# Altium footprint library Small Outline (~1.27mm Pitch) - 6to20 Leads.PcbLib: 81 footprints (part 2 of 6)
Each footprint in its own frame and in the unit in brackets; x right, y up, seen from the top. Pads: shape width x height; smd on the part's side, far side on the other; paste and mask are expansions set on the pad; w line width, h text height; cw(c..) or ccw(c..) is an arc to the next point about the centre after c.
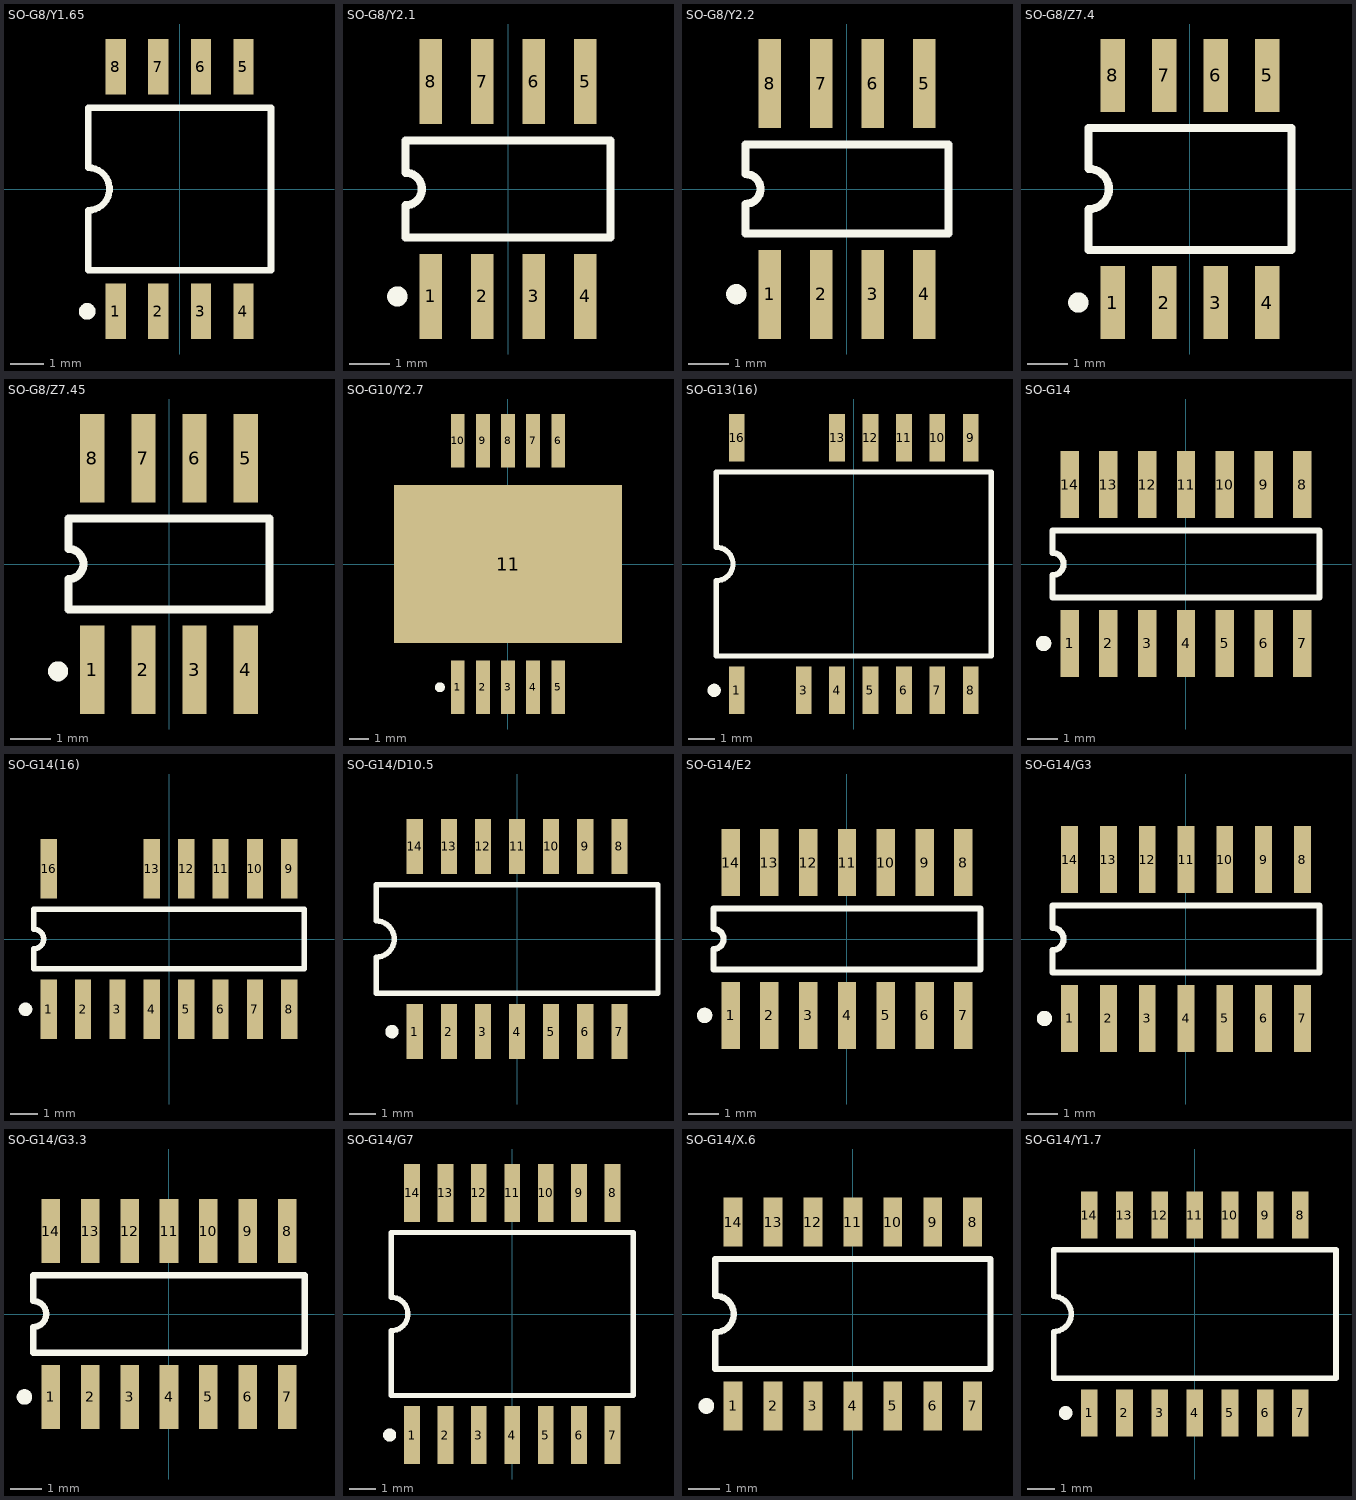
[diagram p1: the footprints below, top view; thin cyan lines are the x and y axes]

## SO-G8/Y1.65 [mm] "Small Outline; 8 Leads; Body Width 5.3 mm; Pitch 1.27 mm"
height 2.13
pads (8):
  rect 0.6x1.65 smd: 1(-1.905,-3.65) 2(-0.635,-3.65) 3(0.635,-3.65) 4(1.905,-3.65) 5(1.905,3.65) 6(0.635,3.65) 7(-0.635,3.65) 8(-1.905,3.65)
Top Overlay:
  circle w0.25: c-2.755,-3.65 r0.125
  lines w0.2: -2.725,-2.425 -2.725,-0.635 ccw(c-2.725,0) -2.725,0.635 -2.725,2.425 2.725,2.425 2.725,-2.425 -2.725,-2.425

## SO-G8/Y2.1 [mm] "Small Outline; 8 Leads; Body Width 3.9 mm; Pitch 1.27 mm"
height 1.75
pads (8):
  rect 0.55x2.1 smd: 1(-1.905,-2.65) 2(-0.635,-2.65) 3(0.635,-2.65) 4(1.905,-2.65) 5(1.905,2.65) 6(0.635,2.65) 7(-0.635,2.65) 8(-1.905,2.65)
Top Overlay:
  circle w0.25: c-2.73,-2.65 r0.125
  lines w0.2: -2.525,-1.2 -2.525,-0.4 ccw(c-2.525,0) -2.525,0.4 -2.525,1.2 2.525,1.2 2.525,-1.2 -2.525,-1.2

## SO-G8/Y2.2 [mm] "Small Outline, Plastic; 8 Leads; Body Width 3.9 mm"
height 1.75
pads (8):
  rect 0.55x2.2 smd: 1(-1.905,-2.6) 2(-0.635,-2.6) 3(0.635,-2.6) 4(1.905,-2.6) 5(1.905,2.6) 6(0.635,2.6) 7(-0.635,2.6) 8(-1.905,2.6)
Top Overlay:
  circle w0.25: c-2.73,-2.595 r0.125
  lines w0.2: -2.5,-1.1 2.5,-1.1 2.5,1.1 -2.5,1.1 -2.5,0.367 cw(c-2.5,0) -2.5,-0.367 -2.5,-1.1

## SO-G8/Z7.4 [mm] "Small Outline; 8 Leads; Body Width 3.9 mm; Pitch 1.27 mm"
height 1.55
pads (8):
  rect 0.6x1.8 smd: 1(-1.905,-2.8) 2(-0.635,-2.8) 3(0.635,-2.8) 4(1.905,-2.8) 5(1.905,2.8) 6(0.635,2.8) 7(-0.635,2.8) 8(-1.905,2.8)
Top Overlay:
  circle w0.25: c-2.755,-2.8 r0.125
  lines w0.2: -2.5,-1.5 2.5,-1.5 2.5,1.5 -2.5,1.5 -2.5,0.5 cw(c-2.5,0) -2.5,-0.5 -2.5,-1.5

## SO-G8/Z7.45 [mm] "Small Outline; 8 Leads; Body Width 3.9 mm; Pitch 1.27 mm"
height 1.75
pads (8):
  rect 0.6x2.2 smd: 1(-1.905,-2.625) 2(-0.635,-2.625) 3(0.635,-2.625) 4(1.905,-2.625) 5(1.905,2.625) 6(0.635,2.625) 7(-0.635,2.625) 8(-1.905,2.625)
Top Overlay:
  circle w0.25: c-2.755,-2.665 r0.125
  lines w0.2: -2.5,-1.125 2.5,-1.125 2.5,1.125 -2.5,1.125 -2.5,0.375 cw(c-2.5,0) -2.5,-0.375 -2.5,-1.125

## SO-G10/Y2.7 [mm] "Small Outline; 10 Leads; Body Width 9.4 mm; Pitch 1.27 mm"
height 3.71
pads (11):
  rect 0.7x2.7 smd: 1(-2.54,-6.225) 2(-1.27,-6.225) 3(0,-6.225) 4(1.27,-6.225) 5(2.54,-6.225) 6(2.54,6.225) 7(1.27,6.225) 8(0,6.225) 9(-1.27,6.225) 10(-2.54,6.225)
  rect 11.5x8 smd: 11(0,0)
Top Overlay:
  circle w0.25: c-3.44,-6.225 r0.125

## SO-G13(16) [mm] "Small Outline; 13 Leads; Body Width 7.5 mm; Pitch 1.27 mm"
height 2.65
pads (13):
  rect 0.6x1.8 smd: 1(-4.445,-4.8) 3(-1.905,-4.8) 4(-0.635,-4.8) 5(0.635,-4.8) 6(1.905,-4.8) 7(3.175,-4.8) 8(4.445,-4.8) 9(4.445,4.8) 10(3.175,4.8) 11(1.905,4.8) 12(0.635,4.8) 13(-0.635,4.8) 16(-4.445,4.8)
Top Overlay:
  circle w0.25: c-5.305,-4.8 r0.125
  lines w0.2: -5.225,-3.5 5.225,-3.5 5.225,3.5 -5.225,3.5 -5.225,0.635 cw(c-5.225,0) -5.225,-0.635 -5.225,-3.5

## SO-G14 [mm] "Small Outline; 14 Leads; Body Width 3.9 mm; Pitch 1.27 mm"
height 1.75
pads (14):
  rect 0.6x2.2 smd: 1(-3.81,-2.6) 2(-2.54,-2.6) 3(-1.27,-2.6) 4(0,-2.6) 5(1.27,-2.6) 6(2.54,-2.6) 7(3.81,-2.6) 8(3.81,2.6) 9(2.54,2.6) 10(1.27,2.6) 11(0,2.6) 12(-1.27,2.6) 13(-2.54,2.6) 14(-3.81,2.6)
Top Overlay:
  circle w0.25: c-4.66,-2.6 r0.125
  lines w0.2: -4.375,-1.1 -4.375,-0.367 ccw(c-4.375,0) -4.375,0.367 -4.375,1.1 4.375,1.1 4.375,-1.1 -4.375,-1.1

## SO-G14(16) [mm] "Small Outline; 14 Leads; Body Width 3.9 mm; Pitch 1.27 mm"
height 1.75
pads (14):
  rect 0.6x2.2 smd: 1(-4.445,-2.6) 2(-3.175,-2.6) 3(-1.905,-2.6) 4(-0.635,-2.6) 5(0.635,-2.6) 6(1.905,-2.6) 7(3.175,-2.6) 8(4.445,-2.6) 9(4.445,2.6) 10(3.175,2.6) 11(1.905,2.6) 12(0.635,2.6) 13(-0.635,2.6) 16(-4.445,2.6)
Top Overlay:
  circle w0.25: c-5.305,-2.6 r0.125
  lines w0.2: -5,-1.1 5,-1.1 5,1.1 -5,1.1 -5,0.367 cw(c-5,0) -5,-0.367 -5,-1.1

## SO-G14/D10.5 [mm] "Small Outline; 14 Leads; Body Width 5.3 mm; Pitch 1.27 mm"
height 2
pads (14):
  rect 0.6x2.05 smd: 1(-3.81,-3.45) 2(-2.54,-3.45) 3(-1.27,-3.45) 4(0,-3.45) 5(1.27,-3.45) 6(2.54,-3.45) 7(3.81,-3.45) 8(3.81,3.45) 9(2.54,3.45) 10(1.27,3.45) 11(0,3.45) 12(-1.27,3.45) 13(-2.54,3.45) 14(-3.81,3.45)
Top Overlay:
  circle w0.25: c-4.66,-3.45 r0.125
  lines w0.2: -5.25,-2.025 5.25,-2.025 5.25,2.025 -5.25,2.025 -5.25,0.675 cw(c-5.25,0) -5.25,-0.675 -5.25,-2.025

## SO-G14/E2 [mm] "Small Outline; 14 Leads; Body Width 3.9 mm; Pitch 1.27 mm"
height 1.75
pads (14):
  rect 0.6x2.2 smd: 1(-3.81,-2.5) 2(-2.54,-2.5) 3(-1.27,-2.5) 4(0,-2.5) 5(1.27,-2.5) 6(2.54,-2.5) 7(3.81,-2.5) 8(3.81,2.5) 9(2.54,2.5) 10(1.27,2.5) 11(0,2.5) 12(-1.27,2.5) 13(-2.54,2.5) 14(-3.81,2.5)
Top Overlay:
  circle w0.25: c-4.66,-2.5 r0.125
  lines w0.2: -4.375,-1 -4.375,-0.333 ccw(c-4.375,0) -4.375,0.333 -4.375,1 4.375,1 4.375,-1 -4.375,-1

## SO-G14/G3 [mm] "Small Outline; 14 Leads; Body Width 3.9 mm; Pitch 1.27 mm"
height 1.75
pads (14):
  rect 0.55x2.2 smd: 1(-3.81,-2.6) 2(-2.54,-2.6) 3(-1.27,-2.6) 4(0,-2.6) 5(1.27,-2.6) 6(2.54,-2.6) 7(3.81,-2.6) 8(3.81,2.6) 9(2.54,2.6) 10(1.27,2.6) 11(0,2.6) 12(-1.27,2.6) 13(-2.54,2.6) 14(-3.81,2.6)
Top Overlay:
  circle w0.25: c-4.635,-2.6 r0.125
  lines w0.2: -4.375,-1.1 -4.375,-0.367 ccw(c-4.375,0) -4.375,0.367 -4.375,1.1 4.375,1.1 4.375,-1.1 -4.375,-1.1

## SO-G14/G3.3 [mm] "Small Outline; 14 Leads; Body Width 3.9 mm; Pitch 1.27 mm"
height 1.75
pads (14):
  rect 0.6x2.05 smd: 1(-3.81,-2.675) 2(-2.54,-2.675) 3(-1.27,-2.675) 4(0,-2.675) 5(1.27,-2.675) 6(2.54,-2.675) 7(3.81,-2.675) 8(3.81,2.675) 9(2.54,2.675) 10(1.27,2.675) 11(0,2.675) 12(-1.27,2.675) 13(-2.54,2.675) 14(-3.81,2.675)
Top Overlay:
  circle w0.25: c-4.66,-2.675 r0.125
  lines w0.2: -4.375,-1.25 4.375,-1.25 4.375,1.25 -4.375,1.25 -4.375,0.417 cw(c-4.375,0) -4.375,-0.417 -4.375,-1.25

## SO-G14/G7 [mm] "Small Outline; 14 Leads; Body Width 7.5 mm; Pitch 1.27 mm"
height 2.65
pads (14):
  rect 0.6x2.2 smd: 1(-3.81,-4.6) 2(-2.54,-4.6) 3(-1.27,-4.6) 4(0,-4.6) 5(1.27,-4.6) 6(2.54,-4.6) 7(3.81,-4.6) 8(3.81,4.6) 9(2.54,4.6) 10(1.27,4.6) 11(0,4.6) 12(-1.27,4.6) 13(-2.54,4.6) 14(-3.81,4.6)
Top Overlay:
  circle w0.25: c-4.66,-4.6 r0.125
  lines w0.2: -4.6,-3.1 -4.6,-0.635 ccw(c-4.6,0) -4.6,0.635 -4.6,3.1 4.6,3.1 4.6,-3.1 -4.6,-3.1

## SO-G14/X.6 [mm] "Small Outline; 14 Leads; Body Width 3.9 mm; Pitch 1.27 mm"
height 1.73
pads (14):
  rect 0.6x1.55 smd: 1(-3.81,-2.925) 2(-2.54,-2.925) 3(-1.27,-2.925) 4(0,-2.925) 5(1.27,-2.925) 6(2.54,-2.925) 7(3.81,-2.925) 8(3.81,2.925) 9(2.54,2.925) 10(1.27,2.925) 11(0,2.925) 12(-1.27,2.925) 13(-2.54,2.925) 14(-3.81,2.925)
Top Overlay:
  circle w0.25: c-4.66,-2.925 r0.125
  lines w0.2: -4.375,-1.75 -4.375,-0.583 ccw(c-4.375,0) -4.375,0.583 -4.375,1.75 4.375,1.75 4.375,-1.75 -4.375,-1.75

## SO-G14/Y1.7 [mm] "Small Outline; 14 Leads; Body Width 5.3 mm; Pitch 1.27 mm"
height 2.1
pads (14):
  rect 0.6x1.7 smd: 1(-3.81,-3.575) 2(-2.54,-3.575) 3(-1.27,-3.575) 4(0,-3.575) 5(1.27,-3.575) 6(2.54,-3.575) 7(3.81,-3.575) 8(3.81,3.575) 9(2.54,3.575) 10(1.27,3.575) 11(0,3.575) 12(-1.27,3.575) 13(-2.54,3.575) 14(-3.81,3.575)
Top Overlay:
  circle w0.25: c-4.66,-3.575 r0.125
  lines w0.2: -5.1,-2.325 5.1,-2.325 5.1,2.325 -5.1,2.325 -5.1,0.635 cw(c-5.1,0) -5.1,-0.635 -5.1,-2.325